# Altium footprint library BAT2032.PcbLib: 1 footprints
Each footprint in its own frame and in the unit in brackets; x right, y up, seen from the top. Pads: shape width x height; smd on the part's side, far side on the other; paste and mask are expansions set on the pad; w line width, h text height; cw(c..) or ccw(c..) is an arc to the next point about the centre after c.
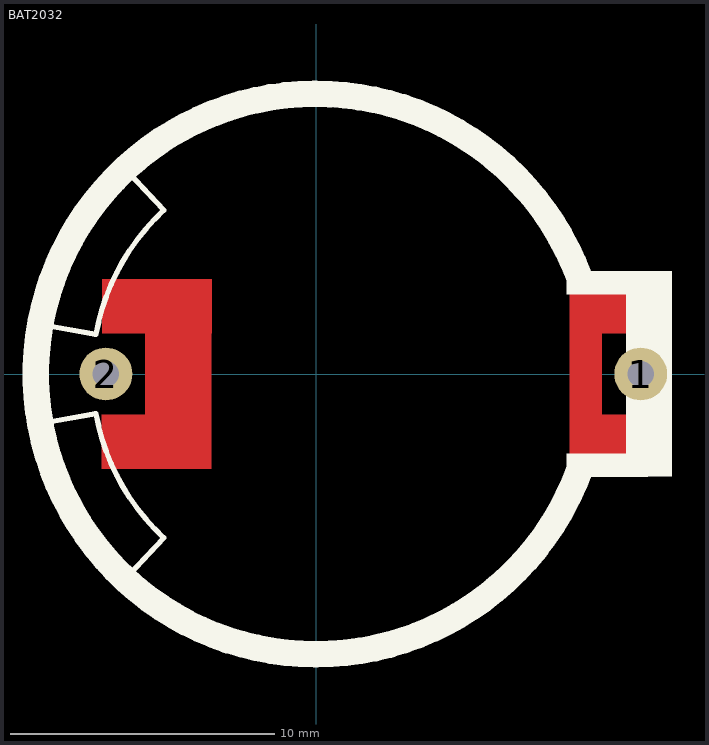
[diagram p0: the footprint, top view; thin cyan lines are the x and y axes]

## BAT2032 [mm] "Lithium Battery Holder for CR2032 3V Cell"
height 6.5
pads (2):
  round 2 hole 1: 1(12.275,0) 2(-7.95,0)
Top Layer:
  region: 10.802,3.591 9.577,3.591 9.577,-3.609 10.802,-3.609
  region: 9.577,-1.534 9.577,-3.609 12.302,-3.609 12.302,-1.534
  region: 12.298,1.534 12.298,3.609 9.573,3.609 9.573,1.534
  region: -8.109,-1.527 -8.109,-3.602 -3.959,-3.602 -3.959,-1.527
  region: -3.941,1.527 -3.941,3.602 -8.09,3.602 -8.09,1.527
  rectangle: -6.475,-3.6 -3.95,3.6
Top Overlay:
  region: 12.59,-3.877 12.59,-3.002 9.466,-3.002 9.466,-3.877
  region: 9.466,3.873 9.466,2.998 12.591,2.998 12.591,3.873
  rectangle: 11.716,-3.877 13.466,3.898
  lines w0.2: -10.325,-1.85 -8.35,-1.5 ; -10.325,1.85 -8.35,1.5 ; -8.325,-1.496 ccw(c0,0) -5.759,-6.195 -7.1,-7.625 ; -8.325,1.496 cw(c0,0) -5.759,6.195 -7.1,7.625 ; 10.4,-3.8 12.5,-3.8 ; 10.425,3.8 12.5,3.8
  lines w1: 9.948,3.661 ccw(c0,0) 9.959,-3.63
3D body: height 0.2, standoff -2.3, extent 11.887,-0.381 12.624,0.381
3D body: height 0.2, standoff -2.3, extent -8.357,-0.418 -7.518,0.395